# Altium footprint library PcbLib1.PcbLib: 13 footprints
Each footprint in its own frame and in the unit in brackets; x right, y up, seen from the top. Pads: shape width x height; smd on the part's side, far side on the other; paste and mask are expansions set on the pad; w line width, h text height; cw(c..) or ccw(c..) is an arc to the next point about the centre after c.
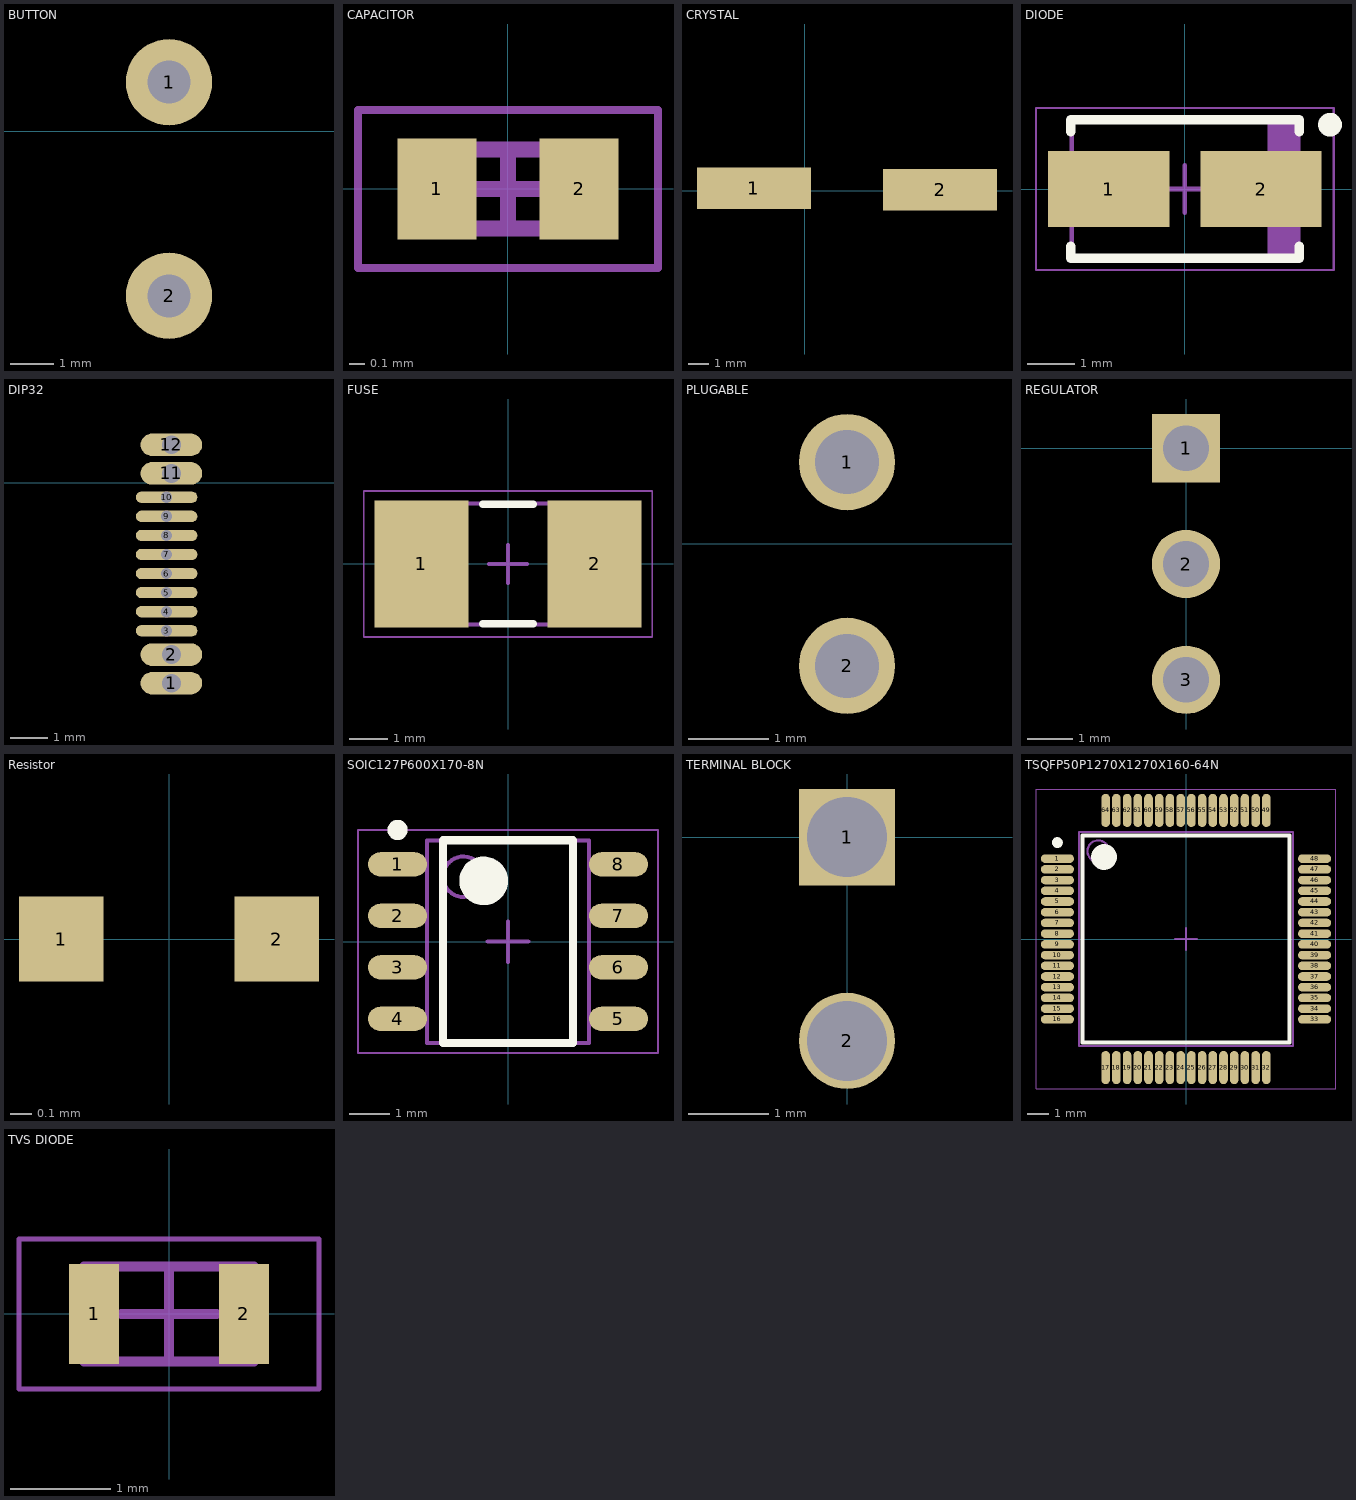
[diagram p0: the footprints below, top view; thin cyan lines are the x and y axes]

## BUTTON [mm]
pads (2):
  round 2 hole 1: 1(14.986,1.143) 2(14.986,-3.81)
3D body "boton.step": height 4.8, standoff -3.5, extent 11.834,-4.497 18.034,1.703

## CAPACITOR [mm]
height 0.55
pads (2):
  rect 0.5x0.64 smd: 1(-0.45,0) 2(0.45,0)
Mechanical 13:
  lines w0.1: -0.5,-0.25 -0.5,0.25 0.5,0.25 0.5,-0.25 -0.5,-0.25
Mechanical 15:
  lines w0.05: -0.95,-0.5 -0.95,0.5 0.95,0.5 0.95,-0.5 -0.95,-0.5
  lines w0.1: -0.25,0 0.25,0 ; 0,-0.25 0,0.25
3D body "GRM1555C1H220JA01D.STEP": height 0.55, standoff 0, extent -0.492,-0.246 0.508,0.254

## CRYSTAL [mm]
pads (2):
  rect 5.5x2 smd: 1(-2.464,0.127) 2(6.538,0.056)
3D body "ECS-160-20-5PXDN-TR.STEP": height 4.3, standoff 0, extent -4.568,-2.39 8.632,2.41

## DIODE [mm] "Molded Diode, 2-Leads, Body 4.37x2.62mm, IPC Medium Density"
height 1.8
pads (2):
  rect 2.55x1.6 smd: 1(-1.6,0) 2(1.6,0)
Top Overlay:
  circle w0.25: c3.05,1.35 r0.125
  lines w0.2: -2.4,-1.2 -2.4,-1.45 2.4,-1.45 2.4,-1.2 ; -2.4,1.2 -2.4,1.45 2.4,1.45 2.4,1.2
Mechanical 13:
  rectangle: 1.736,-1.42 2.375,1.42
  lines w0.1: -2.375,-1.42 2.375,-1.42 2.375,1.42 -2.375,1.42 -2.375,-1.42
Mechanical 15:
  lines w0.05: -3.125,-1.7 3.125,-1.7 3.125,1.7 -3.125,1.7 -3.125,-1.7
  lines w0.1: -0.5,0 0.5,0 ; 0,-0.5 0,0.5
3D body "RS1G.STEP": height 2.5, standoff 0, extent -2.57,-1.27 2.57,1.29

## DIP32 [mm]
pads (12):
  oval 1.64x0.6 hole 0.5: 1(9.144,-5.334) 2(9.144,-4.572) 11(9.144,0.254) 12(9.144,1.016)
  oval 1.64x0.3 hole 0.3: 3(9.017,-3.937) 4(9.017,-3.429) 5(9.017,-2.921) 6(9.017,-2.413) 7(9.017,-1.905) 8(9.017,-1.397) 9(9.017,-0.889) 10(9.017,-0.381)
3D body "HRO_TYPE-C-31-M-12.step": height 3.16, standoff -1.04, extent 9.258,-6.604 17.158,2.346

## FUSE [mm]
height 0.55
pads (2):
  rect 2.45x3.3 smd: 1(-2.25,0) 2(2.25,0)
Top Overlay:
  lines w0.2: -0.65,-1.55 0.65,-1.55 ; -0.65,1.55 0.65,1.55
Mechanical 13:
  lines w0.1: -3.05,-1.575 -3.05,1.575 3.05,1.575 3.05,-1.575 -3.05,-1.575
Mechanical 15:
  lines w0.05: -3.75,-1.9 -3.75,1.9 3.75,1.9 3.75,-1.9 -3.75,-1.9
  lines w0.1: -0.5,0 0.5,0 ; 0,-0.5 0,0.5
3D body "0679L1000-01.STEP": height 2.79, standoff 0, extent -3.05,-1.27 3.05,1.27

## PLUGABLE [mm]
pads (2):
  round 1.2 hole 0.8: 1(3.643,1.016) 2(3.643,-1.524)
3D body "ESW-102-24-G-S.stp": height 13.51, standoff -9.73, extent 2.413,-3.048 4.953,2.54

## REGULATOR [mm]
pads (3):
  rect 1.5x1.5 / inner rect 1.55x1.5 / far side rect 1.5x1.5 hole 1: 1(0,0)
  round 1.5 / inner oval 1.55x1.5 / far side round 1.5 hole 1: 2(0,-2.54) 3(0,-5.08)
3D body "R-78B3.3-1.0L (1).STEP": height 17, standoff -2, extent -5.742,-8.467 6.858,3.133

## Resistor [mm]
pads (2):
  rect 0.4x0.4 smd: 1(-0.508,0) 2(0.508,0)
3D body "CRG0402J10K_10.STEP": height 0.37, standoff 0, extent -0.5,-0.25 0.5,0.25

## SOIC127P600X170-8N [mm] "SOIC, 8-Leads, Body 4.90x3.90mm, Pitch 1.27mm, IPC Medium Density"
height 1.7
pads (8):
  oval 1.45x0.6 smd: 1(-2.725,1.905) 2(-2.725,0.635) 3(-2.725,-0.635) 4(-2.725,-1.905) 5(2.725,-1.905) 6(2.725,-0.635) 7(2.725,0.635) 8(2.725,1.905)
Top Overlay:
  circle w0.6: c-0.6,1.5 r0.3
  circle w0.25: c-2.725,2.755 r0.125
  lines w0.2: -1.6,-2.5 1.6,-2.5 1.6,2.5 -1.6,2.5 -1.6,-2.5
Mechanical 13:
  circle w0.1: c-1.1,1.6 r0.5
  lines w0.1: -2,-2.5 2,-2.5 2,2.5 -2,2.5 -2,-2.5
Mechanical 15:
  lines w0.05: -3.7,-2.75 3.7,-2.75 3.7,2.75 -3.7,2.75 -3.7,-2.75
  lines w0.1: -0.5,0 0.5,0 ; 0,-0.5 0,0.5
3D body "DRV8871DDA.STEP": height 1.7, standoff 0, extent -3,-2.487 3,2.413

## TERMINAL BLOCK [mm]
pads (2):
  rect 1.2x1.2 hole 1: 1(0,0)
  round 1.2 hole 1: 2(0,-2.54)
3D body "282834-2--3DModel-STEP-269445.STEP": height 10, standoff -3.4, extent -3.198,-4.04 3.302,1.5

## TSQFP50P1270X1270X160-64N [mm] "TSQFP, 64-Leads, Body 10.00x10.00mm, Pitch 0.50mm, IPC Medium Density"
height 1.6
pads (64):
  oval 1.55x0.4 smd: 1(-6,3.75) 2(-6,3.25) 3(-6,2.75) 4(-6,2.25) 5(-6,1.75) 6(-6,1.25) 7(-6,0.75) 8(-6,0.25) 9(-6,-0.25) 10(-6,-0.75) 11(-6,-1.25) 12(-6,-1.75) 13(-6,-2.25) 14(-6,-2.75) 15(-6,-3.25) 16(-6,-3.75) 33(6,-3.75) 34(6,-3.25) 35(6,-2.75) 36(6,-2.25) 37(6,-1.75) 38(6,-1.25) 39(6,-0.75) 40(6,-0.25) 41(6,0.25) 42(6,0.75) 43(6,1.25) 44(6,1.75) 45(6,2.25) 46(6,2.75) 47(6,3.25) 48(6,3.75)
  oval 0.4x1.55 smd: 17(-3.75,-6) 18(-3.25,-6) 19(-2.75,-6) 20(-2.25,-6) 21(-1.75,-6) 22(-1.25,-6) 23(-0.75,-6) 24(-0.25,-6) 25(0.25,-6) 26(0.75,-6) 27(1.25,-6) 28(1.75,-6) 29(2.25,-6) 30(2.75,-6) 31(3.25,-6) 32(3.75,-6) 49(3.75,6) 50(3.25,6) 51(2.75,6) 52(2.25,6) 53(1.75,6) 54(1.25,6) 55(0.75,6) 56(0.25,6) 57(-0.25,6) 58(-0.75,6) 59(-1.25,6) 60(-1.75,6) 61(-2.25,6) 62(-2.75,6) 63(-3.25,6) 64(-3.75,6)
Top Overlay:
  circle w0.6: c-3.825,3.825 r0.3
  circle w0.25: c-6,4.5 r0.125
  lines w0.2: -4.825,-4.825 4.825,-4.825 4.825,4.825 -4.825,4.825 -4.825,-4.825
Mechanical 13:
  circle w0.1: c-4.1,4.1 r0.5
  lines w0.1: -5,-5 -5,5 5,5 5,-5 -5,-5
Mechanical 15:
  lines w0.05: -7,-7 -7,7 7,7 7,-7 -7,-7
  lines w0.1: -0.5,0 0.5,0 ; 0,-0.5 0,0.5
3D body "STM32F401RCT6TR.STEP": height 1.6, standoff 0, extent -6,-6.031 6,5.969

## TVS DIODE [mm] "Chip Diode, 2-Leads, Body 1.60x0.83mm, IPC Medium Density"
height 0.55
pads (2):
  rect 0.5x1 smd: 1(-0.75,0) 2(0.75,0)
Mechanical 13:
  lines w0.1: -0.85,-0.475 -0.85,0.475 0.85,0.475 0.85,-0.475 -0.85,-0.475
Mechanical 15:
  lines w0.05: -1.5,-0.75 -1.5,0.75 1.5,0.75 1.5,-0.75 -1.5,-0.75
  lines w0.1: -0.475,0 0.475,0 ; 0,-0.475 0,0.475
3D body "PESD0603240--3DModel-STEP-56544.STEP": height 0.55, standoff 0, extent -0.8,-0.413 0.8,0.413